# Altium schematic symbol library TMM-130-01-X-D-RA.SchLib: 1 symbol
Pins are listed as number, name and electrical type; pins without a type are passive.

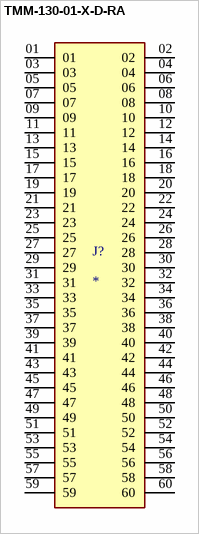
[diagram p0: symbol TMM-130-01-X-D-RA]

## TMM-130-01-X-D-RA
designator J?
Connector Header Through Hole, Right Angle 60 position 0.079 (2.00mm); MF: Samtec; MP: TMM-130-01-L-D-RA; SnapEDA_Link: https://www.snapeda.com/parts/TMM-130-01-L-D-RA/Samtec/view-part/?ref=snap; Package: None; Value: *; Check_prices: https://www.snapeda.com/parts/TMM-130-01-L-D-RA/Samtec/view-part/?ref=eda
footprint SAMTEC_TMM-130-01-X-D-RA
pins: 01, 02, 03, 04, 05, 06, 07, 08, 09, 10, 11, 12, 13, 14, 15, 16, 17, 18, 19, 20, 21, 22, 23, 24, 25, 26, 27, 28, 29, 30, 31, 32, 33, 34, 35, 36, 37, 38, 39, 40, 41, 42, 43, 44, 45, 46, 47, 48, 49, 50, 51, 52, 53, 54, 55, 56, 57, 58, 59, 60